# EAGLE library part PMBFJ620 (library yb-library)
Dual N-Channel JFET (NXP)
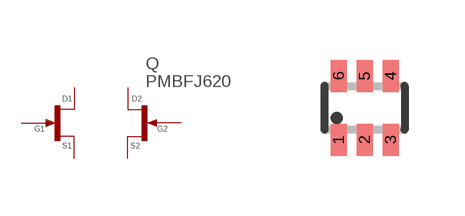
[diagram p16: symbol with the pads of SOT-363; footprint SOT-363]

Designator prefix Q

## PMBFJ620  [SOT-363]
1  S1  pas
2  S2  pas
3  G2  pas
4  D2  pas
5  D1  pas
6  G1  pas

## Footprint SOT-363 (pad centres in mm)
smd 0.4 x 0.8: 1 -0.65,-0.8; 2 0,-0.8; 3 0.65,-0.8; 4 0.65,0.8; 5 0,0.8; 6 -0.65,0.8